# Altium footprint library PC_TEST_POINT_MINI_SMD_5019.PCBLIB: 1 footprints
Each footprint in its own frame and in the unit in brackets; x right, y up, seen from the top. Pads: shape width x height; smd on the part's side, far side on the other; paste and mask are expansions set on the pad; w line width, h text height; cw(c..) or ccw(c..) is an arc to the next point about the centre after c.
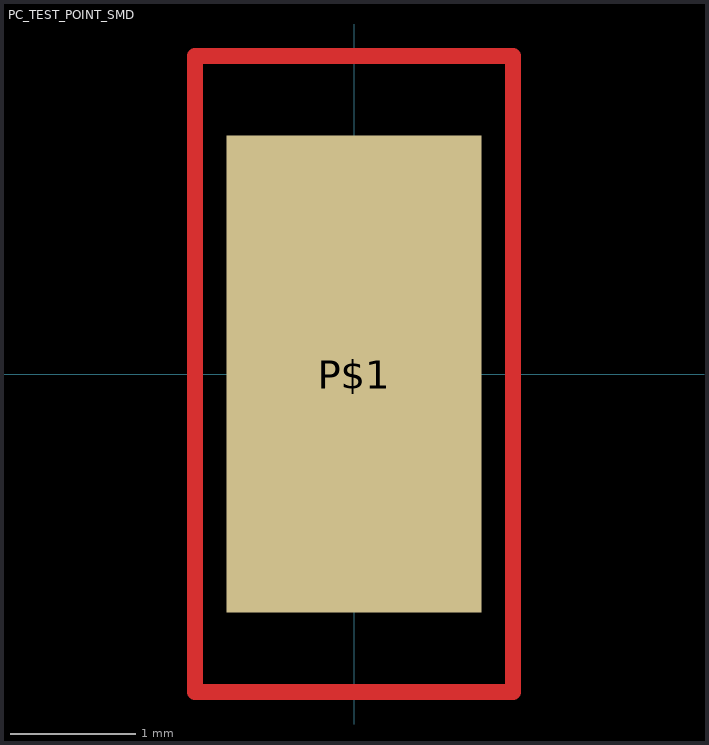
[diagram p0: the footprint, top view; thin cyan lines are the x and y axes]

## PC_TEST_POINT_SMD [mil]
pads (1):
  rect 80x150 smd: P$1(0,0)
Top Layer:
  lines w5: -50,-100 50,-100 50,100 -50,100 -50,-100